# Altium integrated library Pmod_SSD_Design.IntLib: 6 symbols
Pins are listed as number, name and electrical type; pins without a type are passive.

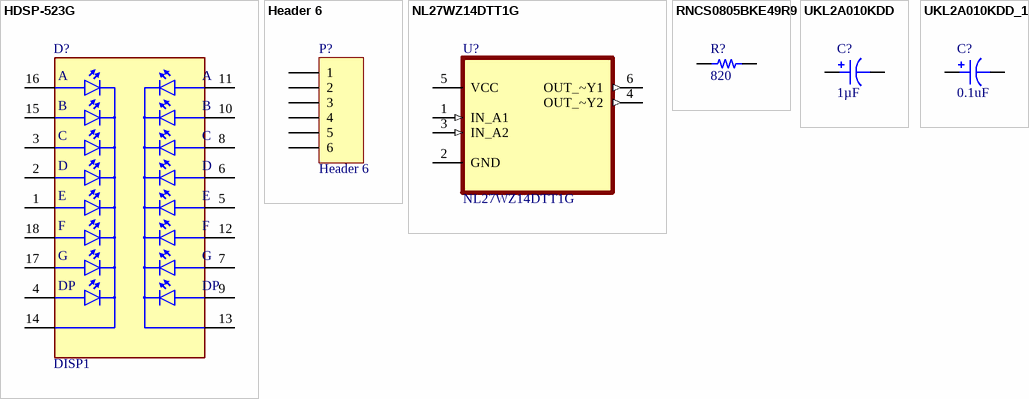
[diagram p0: symbols HDSP-523G to UKL2A010KDD_1]

## HDSP-523G
designator D?, comment DISP1
Display Modules - LED Character and Numeric Green 7-Segment 2 Character Common Cathode 2V 10mA 0.732 H x 0.984 W x 0.315 D (18.60mm x 25.00mm x 8.00mm) 18-DIP (0.600, 15.24mm); MF: Broadcom Limited; MP: HDSP-523G; Check_prices: https://www.snapeda.com/parts/HDSP-523G/Broadcom+Limited/view-part/?ref=eda; Availability: In Stock; Price: None; Package: None; Value: *; Purchase-URL: https://pricing.snapeda.com/search/part/HDSP-523G/?ref=eda; SnapEDA_Link: https://www.snapeda.com/parts/HDSP-523G/Broadcom+Limited/view-part/?ref=snap
footprint LED_HDSP-523G
pins: 1 E1, 2 D1, 3 C1, 4 DP1, 5 E2, 6 D2, 7 G2, 8 C2, 9 DP2, 10 B2, 11 A2, 12 F2, 13 COM2, 14 COM1, 15 B1, 16 A1, 17 G1, 18 F1
text: A; B; C; D; E; F; G; DP

## Header 6
designator P?
Header, 6-Pin; LatestRevisionDate: 17-Jul-2002; LatestRevisionNote: Re-released for DXP Platform.; Publisher: Altium Limited
footprint HDR1X6 (Connector; Header; 6 Position)
signal-integrity model Connector
pins: 1, 2, 3, 4, 5, 6

## NL27WZ14DTT1G
designator U?
Inverter IC 2 Channel Schmitt Trigger 6-TSOP; MF: ON Semiconductor; Package: TSOP-6 ON Semiconductor; Price: None; Check_prices: https://www.snapeda.com/parts/NL27WZ14DTT1G/ON%20Semiconductor/view-part/292209/?ref=eda; Value: *; MP: NL27WZ14DTT1G; SnapEDA_Link: https://www.snapeda.com/parts/NL27WZ14DTT1G/ON%20Semiconductor/view-part/292209/?ref=snap; Availability: In Stock
footprint SOT95P275X110-6N
pins: 1 IN_A1 (in), 2 GND, 3 IN_A2 (in), 4 OUT_~Y2 (out), 5 VCC (power), 6 OUT_~Y1 (out)

## RNCS0805BKE49R9
designator R?, comment 820
RES 49.9 OHM 0.1% 1/10W 0805; Part Number: RNCS0805BKE49R9; Manufacturer: Stackpole Electronics Inc; Power (Watts): 0.1W, 1/10W; Resistance: 49.9 Ohms; Temperature Coefficient: ±25ppm/°C; Value: 820; ComponentLink1Description: Datasheet; ComponentLink1URL: https://www.seielect.com/catalog/sei-rncs_rnch.pdf; ComponentLink2Description: DigiKey Link; ComponentLink2URL: https://www.digikey.com/en/products/detail/stackpole-electronics-inc/RNCS0805BKE49R9/1800098; Composition: Thin Film; Device Package: 0805 (2012 Metric); Features: Anti-Corrosive, Automotive AEC-Q200, Moisture Resistant; Height - Seated (Max): 0.026" (0.65mm); LastUpdated: 9.06.2023 19:55:35; Lifecycle Status: Active; Minimum Order: 1; Number of Terminations: 2; Operating Temperature: -55°C ~ 155°C; Package / Case: 0805 (2012 Metric); Packaging: TapeAndReel; PartId: 27719; Part Status: Active; Price: 0.07; Ratings: AEC-Q200; Series: RNCS; Size / Dimension: 0.079" L x 0.049" W (2.00mm x 1.25mm); Supplier 1: DigiKey; Supplier Part Number 1: RNCS0805BKE49R9CT-ND; Supplier Device Package: 0805; Tolerance: ±0.1%
footprint RES 0805_2012
pins: 1, 2

## UKL2A010KDD
designator C?, comment 1µF
CAP ALUM 1UF 10% 100V RADIAL; Part Number: UKL2A010KDD; manufacturer: Nichicon; Lifetime @ Temp.: 2000 Hrs @ 85°C; Polarization: Polar; Ripple Current @ High Frequency: 38mA @ 10kHz; Ripple Current @ Low Frequency: 19mA @ 120Hz; Applications: General Purpose; Capacitance: 1µF; componentlink1description: Datasheet; componentlink1url: http://nichicon-us.com/english/products/pdfs/e-ukl.pdf; componentlink2description: DigiKey Link; componentlink2url: http://digikey.com/product-detail/en/nichicon/UKL2A010KDD/493-15407-ND/2598552; Device Package: Radial, Can; Height - Seated (Max): 0.472" (12.00mm); lastupdated: 4.09.2020 23:28:57; Lead Spacing: 0.079" (2.00mm); Lifecycle Status: Active; Minimum Order: 1; Mounting Type: Through Hole; Operating Temperature: -40°C ~ 85°C; Package / Case: Radial, Can; packaging: Bulk; partid: 21600; Part Status: Active; price: 0.35; series: UKL; Size / Dimension: 0.197" Dia (5.00mm); Supplier 1: DigiKey; Supplier Part Number 1: 493-15407-ND; Tolerance: ±10%; value: 1µF; Voltage - Rated: 100V
footprint CAP TH ALUM ELEC D5.00mm S2.00mm H12.00mm
pins: 1, 2

## UKL2A010KDD_1
designator C?, comment 0.1uF
CAP ALUM 1UF 10% 100V RADIAL; Part Number: UKL2A010KDD; manufacturer: Nichicon; Capacitance: 1µF; Lifetime @ Temp.: 2000 Hrs @ 85°C; Polarization: Polar; Ripple Current @ High Frequency: 38mA @ 10kHz; Ripple Current @ Low Frequency: 19mA @ 120Hz; value: 1µF; Applications: General Purpose; componentlink1description: Datasheet; componentlink1url: http://nichicon-us.com/english/products/pdfs/e-ukl.pdf; componentlink2description: DigiKey Link; componentlink2url: http://digikey.com/product-detail/en/nichicon/UKL2A010KDD/493-15407-ND/2598552; Device Package: Radial, Can; Height - Seated (Max): 0.472" (12.00mm); lastupdated: 4.09.2020 23:28:57; Lead Spacing: 0.079" (2.00mm); Lifecycle Status: Active; Minimum Order: 1; Mounting Type: Through Hole; Operating Temperature: -40°C ~ 85°C; Package / Case: Radial, Can; packaging: Bulk; partid: 21600; Part Status: Active; price: 0.35; series: UKL; Size / Dimension: 0.197" Dia (5.00mm); Supplier 1: DigiKey; Supplier Part Number 1: 493-15407-ND; Tolerance: ±10%; Voltage - Rated: 100V
footprint CAP TH ALUM ELEC D5.00mm S2.00mm H12.00mm
pins: 1, 2